# Altium footprint library Key.PcbLib: 1 footprints
Each footprint in its own frame and in the unit in brackets; x right, y up, seen from the top. Pads: shape width x height; smd on the part's side, far side on the other; paste and mask are expansions set on the pad; w line width, h text height; cw(c..) or ccw(c..) is an arc to the next point about the centre after c.
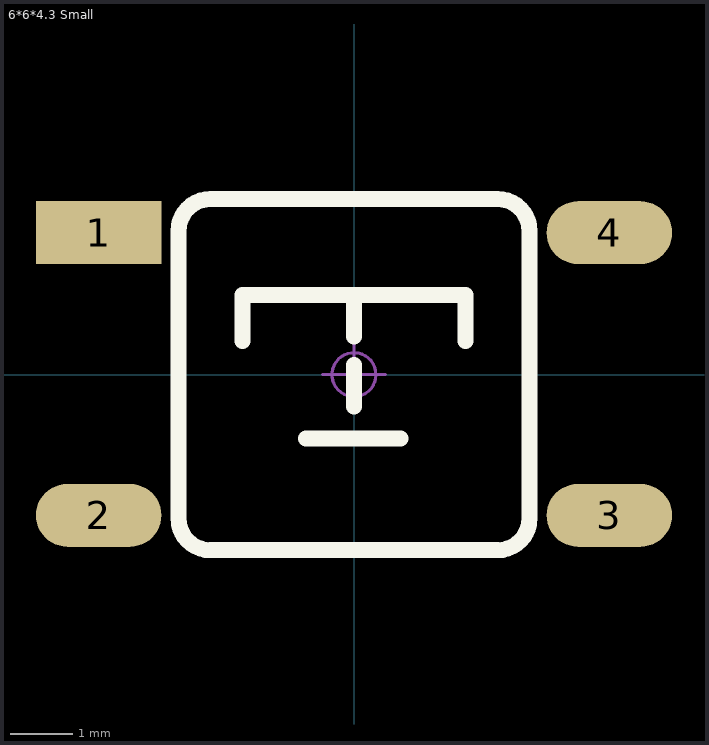
[diagram p0: the footprint, top view; thin cyan lines are the x and y axes]

## 6*6*4.3 Small [mm] "6*6*4.3mm"
pads (4):
  rect 2x1 smd: 1(-4.064,2.261)
  oval 2x1 smd: 2(-4.064,-2.239) 3(4.064,-2.239) 4(4.064,2.261)
Top Overlay:
  lines w0.254: -1.778,0.533 -1.778,1.27 1.778,1.27 1.778,0.533 ; -0.762,-1.016 0.737,-1.016 ; 0,-0.508 0,0.152 ; 0,0.61 0,1.27 ; -2.794,-2.286 ccw(c-2.286,-2.286) -2.286,-2.794 2.286,-2.794 ccw(c2.286,-2.286) 2.794,-2.286 2.794,2.286 ccw(c2.286,2.286) 2.286,2.794 -2.286,2.794 ccw(c-2.286,2.286) -2.794,2.286 -2.794,-2.286
Mechanical 15:
  circle w0.05: c0,0 r0.35
  lines w0.05: -0.5,0 0.5,0 ; 0,-0.5 0,0.5
3D body "TSW SMD-6x6x4.3.STEP": height 4.25, standoff 0.05, extent -4.5,-3 4.5,3